# Altium schematic symbol library Sch for NFC.SchLib: 70 symbols (part 1 of 7)
Pins are listed as number, name and electrical type; pins without a type are passive.

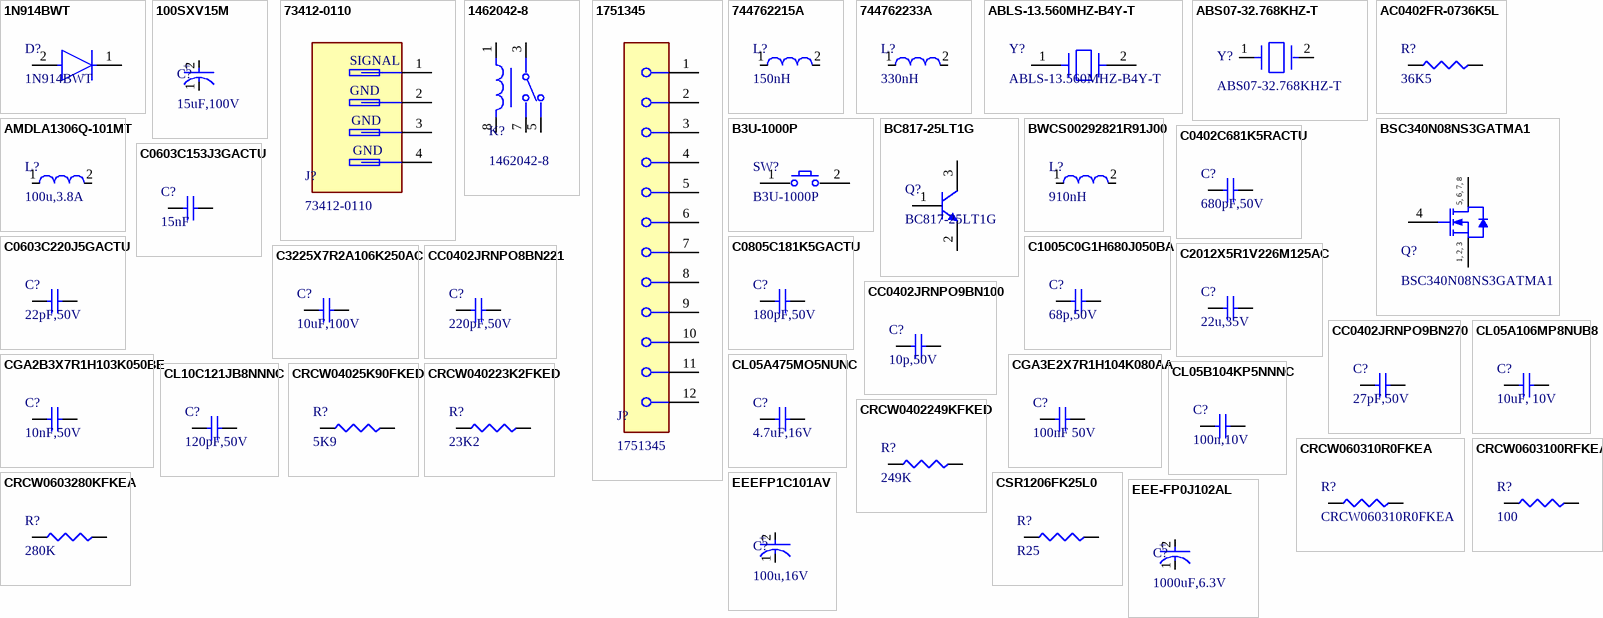
[diagram p0: symbols 1N914BWT to EEEFP1C101AV]

## 1N914BWT
designator D?
Res Thick Film 0603 1K Ohm 5% 0.125W(1/8W) ±200ppm/C Pad SMD Automotive T/R; Manufacturer: onsemi; Manufacturer Lifecycle Status: ACTIVE; Average Rectified Current: 200mA; Value: 4pF; Element Configuration: Single; Forward Current: 300mA; Forward Voltage: 720mV; Max Junction Temperature (Tj): 150°C; Max Output current: 150mA; Max Power Dissipation: 200mW; Max Repetitive Reverse Voltage (Vrrm): 75V; Max Reverse Leakage Current: 5µA; Number of Elements: 1; Recovery Time: 4ns; Reverse Voltage: 100V; Power Rating: 125mW; Temperature Coefficient: 200ppm/°C; Voltage Rating (DC): 50V; Supplier: DigiKey; Manufacturer Part Number: 1N914BWT; RoHS: Compliant; Category: Rectifier Diodes; Stock: 477421; Pricing: 1=0.1, 10=0.049, 100=0.0485, 500=0.038, 1000=0.03306, 2000=0.03258 (USD); China RoHS: Compliant; Contact Plating: Tin; Height: 700µm; Lead Free: Lead Free; Lifecycle Status: Production; Max Operating Temperature: 150°C; Max Reverse Voltage (DC): 75V; Min Operating Temperature: -55°C; Mounting Technology: Surface Mount; Pins: 2; Number of Terminals: 2; Peak Reverse Current: 5µA; Power Dissipation: 200mW; Radiation Hardening: No; REACH SVHC: Yes; Reverse Recovery Time: 4ns; Reverse Standoff Voltage: 75V; Schedule B: 8541100070, 8541100070|8541100070|8541100070|8541100070|8541100070; Weight: 10mg; ComponentLink1URL: https://datasheet.octopart.com:443/1N914BWT-ON-Semiconductor-datasheet-137236191.pdf?src-supplier=Master+Electronics; ComponentLink1Description: https://datasheet.octopart.com:443/1N914BWT-ON-Semiconductor-datasheet-137236191.pdf?src-supplier=Master+Electronics; ComponentLink2URL: https://sigma.octopart.com:443/138897313/technical_drawing/ON-Semiconductor-1N914BWT.pdf?src-supplier=Upverter; ComponentLink2Description: https://sigma.octopart.com:443/138897313/technical_drawing/ON-Semiconductor-1N914BWT.pdf?src-supplier=Upverter; ComponentLink3URL: https://datasheet.octopart.com:443/1N914BWT-ON-Semiconductor-datasheet-8641207.pdf?src-supplier=IHS; ComponentLink3Description: https://datasheet.octopart.com:443/1N914BWT-ON-Semiconductor-datasheet-8641207.pdf?src-supplier=IHS; ComponentLink4URL: https://datasheet.octopart.com:443/1N914BWT-onsemi-datasheet-181265884.pdf?src-supplier=IHS; ComponentLink4Description: https://datasheet.octopart.com:443/1N914BWT-onsemi-datasheet-181265884.pdf?src-supplier=IHS; ComponentLink5URL: https://datasheet.octopart.com:443/1N914BWT-ON-Semiconductor-datasheet-85393215.pdf?src-supplier=onsemi; ComponentLink5Description: https://datasheet.octopart.com:443/1N914BWT-ON-Semiconductor-datasheet-85393215.pdf?src-supplier=onsemi; ComponentLink6URL: https://datasheet.octopart.com:443/1N914BWT-ON-Semiconductor-datasheet-86684494.pdf?src-supplier=onsemi; ComponentLink6Description: https://datasheet.octopart.com:443/1N914BWT-ON-Semiconductor-datasheet-86684494.pdf?src-supplier=onsemi; ComponentLink7URL: https://datasheet.octopart.com:443/1N914BWT-ON-Semiconductor-datasheet-86681974.pdf?src-supplier=element14+APAC; ComponentLink7Description: https://datasheet.octopart.com:443/1N914BWT-ON-Semiconductor-datasheet-86681974.pdf?src-supplier=element14+APAC; ComponentLink8URL: https://datasheet.octopart.com:443/1N914BWT-Fairchild-datasheet-597795.pdf?src-supplier=Future+Electronics; ComponentLink8Description: https://datasheet.octopart.com:443/1N914BWT-Fairchild-datasheet-597795.pdf?src-supplier=Future+Electronics; ComponentLink9URL: https://sigma.octopart.com:443/17343427/technical_drawing/Fairchild-Semiconductor-1N914BWT.pdf?src-supplier=Fairchild+Semiconductor; ComponentLink9Description: https://sigma.octopart.com:443/17343427/technical_drawing/Fairchild-Semiconductor-1N914BWT.pdf?src-supplier=Fairchild+Semiconductor; ComponentLink10URL: https://datasheet.octopart.com:443/1N914BWT-Fairchild-Semiconductor-datasheet-67878665.pdf?src-supplier=Farnell; ComponentLink10Description: https://datasheet.octopart.com:443/1N914BWT-Fairchild-Semiconductor-datasheet-67878665.pdf?src-supplier=Farnell; ComponentLink11URL: https://datasheet.octopart.com:443/1N914BWT-Fairchild-Semiconductor-datasheet-68649996.pdf?src-supplier=Farnell; ComponentLink11Description: https://datasheet.octopart.com:443/1N914BWT-Fairchild-Semiconductor-datasheet-68649996.pdf?src-supplier=Farnell; ComponentLink12URL: https://datasheet.octopart.com:443/1N914BWT-Fairchild-Semiconductor-datasheet-78857206.pdf?src-supplier=Farnell; ComponentLink12Description: https://datasheet.octopart.com:443/1N914BWT-Fairchild-Semiconductor-datasheet-78857206.pdf?src-supplier=Farnell; ComponentLink13URL: https://datasheet.octopart.com:443/1N914BWT-Fairchild-Semiconductor-datasheet-67909706.pdf?src-supplier=Newark; ComponentLink13Description: https://datasheet.octopart.com:443/1N914BWT-Fairchild-Semiconductor-datasheet-67909706.pdf?src-supplier=Newark; ComponentLink14URL: https://datasheet.octopart.com:443/1N914BWT-Fairchild-Semiconductor-datasheet-68364971.pdf?src-supplier=Newark; ComponentLink14Description: https://datasheet.octopart.com:443/1N914BWT-Fairchild-Semiconductor-datasheet-68364971.pdf?src-supplier=Newark; ComponentLink15URL: https://datasheet.octopart.com:443/1N914BWT-Fairchild-Semiconductor-datasheet-71421042.pdf?src-supplier=Newark; ComponentLink15Description: https://datasheet.octopart.com:443/1N914BWT-Fairchild-Semiconductor-datasheet-71421042.pdf?src-supplier=Newark; ComponentLink16URL: http://sigma.octopart.com:80/150599636/rohs_statement/ON-Semiconductor-1N914BWT.pdf?src-supplier=Compliance+Statements; ComponentLink16Description: http://sigma.octopart.com:80/150599636/rohs_statement/ON-Semiconductor-1N914BWT.pdf?src-supplier=Compliance+Statements; ComponentLink17URL: http://sigma.octopart.com:80/17343722/reach_statement/Fairchild-Semiconductor-1N914BWT.pdf?src-supplier=Compliance+Statements; ComponentLink17Description: http://sigma.octopart.com:80/17343722/reach_statement/Fairchild-Semiconductor-1N914BWT.pdf?src-supplier=Compliance+Statements; ComponentLink18URL: http://sigma.octopart.com:80/17343723/materials_sheet/Fairchild-Semiconductor-1N914BWT.pdf?src-supplier=Compliance+Statements; ComponentLink18Description: http://sigma.octopart.com:80/17343723/materials_sheet/Fairchild-Semiconductor-1N914BWT.pdf?src-supplier=Compliance+Statements; ComponentLink19URL: http://sigma.octopart.com:80/33033631/reach_statement/Fairchild-Semiconductor-1N914BWT.pdf?src-supplier=Compliance+Statements; ComponentLink19Description: http://sigma.octopart.com:80/33033631/reach_statement/Fairchild-Semiconductor-1N914BWT.pdf?src-supplier=Compliance+Statements; ComponentLink20URL: http://sigma.octopart.com:80/33033633/materials_sheet/Fairchild-Semiconductor-1N914BWT.pdf?src-supplier=Compliance+Statements; ComponentLink20Description: http://sigma.octopart.com:80/33033633/materials_sheet/Fairchild-Semiconductor-1N914BWT.pdf?src-supplier=Compliance+Statements; ComponentLink21URL: http://sigma.octopart.com:80/reach_statement/ON-Semiconductor-company-79.pdf?src-supplier=Compliance+Statements; ComponentLink21Description: http://sigma.octopart.com:80/reach_statement/ON-Semiconductor-company-79.pdf?src-supplier=Compliance+Statements; ComponentLink22URL: http://sigma.octopart.com:80/reach_statement/Fairchild-Semiconductor-company-9.pdf?src-supplier=Compliance+Statements; ComponentLink22Description: http://sigma.octopart.com:80/reach_statement/Fairchild-Semiconductor-company-9.pdf?src-supplier=Compliance+Statements; ComponentLink23URL: http://sigma.octopart.com:80/rohs_statement/Fairchild-Semiconductor-company-10.pdf?src-supplier=Compliance+Statements; ComponentLink23Description: http://sigma.octopart.com:80/rohs_statement/Fairchild-Semiconductor-company-10.pdf?src-supplier=Compliance+Statements; ComponentLink24URL: http://sigma.octopart.com:80/rohs_statement/Fairchild-Semiconductor-company-11.pdf?src-supplier=Compliance+Statements; ComponentLink24Description: http://sigma.octopart.com:80/rohs_statement/Fairchild-Semiconductor-company-11.pdf?src-supplier=Compliance+Statements; ComponentLink25URL: https://octopart.com:443/opatz8j6/c1?t=2WqiEKOw8wqArRZqPpvR85ynHt7ZzVk2cO10dLGm-R0uzi761TwnKGd8G704mGlWt5NrywDr0KiccpzbdVN0vLD60p8HUNozkBvJah_YtAF0qkz_YdCTpuTRvpRRGRHvTs5MnoSWnaWLNMk8GsWHB5GOWZxEGL76QI-UHf2VYZrxGgdInPPAHzx67g23p6ag1zMjOvdQ_KO0sLW1YCbP87miLJ-xuglZHSzMiJPSla-JOyFE5O4L_wVOcXuUuW9Nq80bDDjFIEvXv_yLg6OaI31d8ivh4qXBzQAE5bOv_0EkyUSKc6N_Bvj2gIrePwDtp1ZIMUr8bvv7xrz_Ey9Bd0_sQCggic841Ck&src-supplier=Compliance+Statements; ComponentLink25Description: https://octopart.com:443/opatz8j6/c1?t=2WqiEKOw8wqArRZqPpvR85ynHt7ZzVk2cO10dLGm-R0uzi761TwnKGd8G704mGlWt5NrywDr0KiccpzbdVN0vLD60p8HUNozkBvJah_YtAF0qkz_YdCTpuTRvpRRGRHvTs5MnoSWnaWLNMk8GsWHB5GOWZxEGL76QI-UHf2VYZrxGgdInPPAHzx67g23p6ag1zMjOvdQ_KO0sLW1YCbP87miLJ-xuglZHSzMiJPSla-JOyFE5O4L_wVOcXuUuW9Nq80bDDjFIEvXv_yLg6OaI31d8ivh4qXBzQAE5bOv_0EkyUSKc6N_Bvj2gIrePwDtp1ZIMUr8bvv7xrz_Ey9Bd0_sQCggic841Ck&src-supplier=Compliance+Statements; ComponentLink26URL: https://octopart.com:443/opatz8j6/c1?t=RaqNgoITNyWOJnQ6Vh5XIuzQpAbr0CmMJXnszeBW8MsXPXzYAlD6RDR-K-xNy0bOoPbUZIWRPJiazHjtXn9auSuHtYVzaYiY_-4ACrRiEunSg5ftXbk51fnzLHl-pnx-xENRGEoc0sVQC3sW6At9uQOqTuvKnbOKqBSmNHH-_AM452Vbz-1SYlG8b9doSGgNLF68ZLSsI2Xi9YbSWNoCRNsA0utVy25_kYVX52Ab7j5ee_hVQPYkWwgdnH6jdHziL8hQDhpeIfaPz7mxVfqPvCOhRP-Nv0lQS1TZTbPLcILF8nRMY4HoGGGhnPru0GeEwc_xKGUtBaA48gLnW1nYBzFXwEvRb-b_FPUG&src-supplier=Compliance+Statements; ComponentLink26Description: https://octopart.com:443/opatz8j6/c1?t=RaqNgoITNyWOJnQ6Vh5XIuzQpAbr0CmMJXnszeBW8MsXPXzYAlD6RDR-K-xNy0bOoPbUZIWRPJiazHjtXn9auSuHtYVzaYiY_-4ACrRiEunSg5ftXbk51fnzLHl-pnx-xENRGEoc0sVQC3sW6At9uQOqTuvKnbOKqBSmNHH-_AM452Vbz-1SYlG8b9doSGgNLF68ZLSsI2Xi9YbSWNoCRNsA0utVy25_kYVX52Ab7j5ee_hVQPYkWwgdnH6jdHziL8hQDhpeIfaPz7mxVfqPvCOhRP-Nv0lQS1TZTbPLcILF8nRMY4HoGGGhnPru0GeEwc_xKGUtBaA48gLnW1nYBzFXwEvRb-b_FPUG&src-supplier=Compliance+Statements; LCSC PN: C896167; Case/Package: 0603; Case Code (Imperial): 0603; Case Code (Metric): 1608; Composition: Thick Film; Depth: 800µm; Length: 1.6mm; Military Standard: Not; Termination: SMD/SMT; Tolerance: 5%; Voltage Rating: 75V; Width: 800µm; Working Voltage: 75V; ComponentLink27URL: https://datasheet.octopart.com:443/RK73B1JTTD102J-KOA-Speer-datasheet-182143538.pdf?src-supplier=IHS; ComponentLink27Description: https://datasheet.octopart.com:443/RK73B1JTTD102J-KOA-Speer-datasheet-182143538.pdf?src-supplier=IHS; ComponentLink28URL: https://datasheet.octopart.com:443/RK73B1JTTD102J-KOA-Speer-datasheet-154585773.pdf?src-supplier=Future+Electronics; ComponentLink28Description: https://datasheet.octopart.com:443/RK73B1JTTD102J-KOA-Speer-datasheet-154585773.pdf?src-supplier=Future+Electronics; ComponentLink29URL: https://sigma.octopart.com:443/138820520/technical_drawing/KOA-Speer-RK73B1JTTD102J.pdf?src-supplier=Upverter; ComponentLink29Description: https://sigma.octopart.com:443/138820520/technical_drawing/KOA-Speer-RK73B1JTTD102J.pdf?src-supplier=Upverter; ComponentLink30URL: https://datasheet.octopart.com:443/RK73B1JTTD102J-KOA-Speer-datasheet-149653812.pdf?src-supplier=Farnell; ComponentLink30Description: https://datasheet.octopart.com:443/RK73B1JTTD102J-KOA-Speer-datasheet-149653812.pdf?src-supplier=Farnell; ComponentLink31URL: https://datasheet.octopart.com:443/RK73B1JTTD102J-KOA-Speer-datasheet-188906115.pdf?src-supplier=TME; ComponentLink31Description: https://datasheet.octopart.com:443/RK73B1JTTD102J-KOA-Speer-datasheet-188906115.pdf?src-supplier=TME; ComponentLink32URL: https://datasheet.octopart.com/RK73B-%7C-General-Purpose-2%25%2C-5%25-Tolerance-Thick-Film-Chip-Resistor-KOA-Speer-datasheet-family-86.pdf; ComponentLink32Description: https://datasheet.octopart.com/RK73B-%7C-General-Purpose-2%25%2C-5%25-Tolerance-Thick-Film-Chip-Resistor-KOA-Speer-datasheet-family-86.pdf; ComponentLink33URL: https://datasheet.octopart.com/RK73B1JTTD102J-KOA-Speer-datasheet-11541631.pdf; ComponentLink33Description: https://datasheet.octopart.com/RK73B1JTTD102J-KOA-Speer-datasheet-11541631.pdf; ComponentLink34URL: https://datasheet.octopart.com:443/RK73B1JTTD102J-KOA-Speer-datasheet-12985592.pdf?src-supplier=element14+APAC; ComponentLink34Description: https://datasheet.octopart.com:443/RK73B1JTTD102J-KOA-Speer-datasheet-12985592.pdf?src-supplier=element14+APAC; ComponentLink35URL: https://datasheet.octopart.com:443/RK73B1JTTD102J-KOA-Speer-datasheet-5377382.pdf?src-supplier=Garrett; ComponentLink35Description: https://datasheet.octopart.com:443/RK73B1JTTD102J-KOA-Speer-datasheet-5377382.pdf?src-supplier=Garrett; ComponentLink36URL: https://datasheet.octopart.com:443/RK73B1JTTD102J-KOA-Speer-datasheet-5377782.pdf?src-supplier=Garrett; ComponentLink36Description: https://datasheet.octopart.com:443/RK73B1JTTD102J-KOA-Speer-datasheet-5377782.pdf?src-supplier=Garrett; ComponentLink37URL: https://datasheet.octopart.com:443/RK73B1JTTD102J-KOA-Speer-datasheet-109290.pdf?src-supplier=Garrett; ComponentLink37Description: https://datasheet.octopart.com:443/RK73B1JTTD102J-KOA-Speer-datasheet-109290.pdf?src-supplier=Garrett; ComponentLink38URL: https://datasheet.octopart.com:443/RK73B1JTTD102J-KOA-Speer-datasheet-7547463.pdf?src-supplier=Jameco; ComponentLink38Description: https://datasheet.octopart.com:443/RK73B1JTTD102J-KOA-Speer-datasheet-7547463.pdf?src-supplier=Jameco; ComponentLink39URL: http://sigma.octopart.com:80/rohs_certificate/RK73B-%7C-General-Purpose-2%25%2C-5%25-Tolerance-Thick-Film-Chip-Resistor-KOA-Speer-family-90.pdf?src-supplier=Compliance+Statements; ComponentLink39Description: http://sigma.octopart.com:80/rohs_certificate/RK73B-%7C-General-Purpose-2%25%2C-5%25-Tolerance-Thick-Film-Chip-Resistor-KOA-Speer-family-90.pdf?src-supplier=Compliance+Statements
footprint 1N914BWT_dIODE_smd_ON_Semiconductor_502-01_MFG
pins: 1 CATHODE, 2 ANODE

## 100SXV15M
designator C?, comment 15uF,100V
15 µF 100 V Aluminum - Polymer Capacitors Radial, Can - SMD 40mOhm 1000 Hrs @ 125°C; Manufacturer: Panasonic; Manufacturer Part Number: 100SXV15M; Value: 15µF; ESR (Equivalent Series Resistance): 40mΩ; Leakage Current: 75µA; Life (Hours): 1000hours; Polarity: Polar; Ripple Current: 36.5mA; Tolerance: 20%; Supplier: DigiKey; RoHS: Compliant; Category: Aluminum Electrolytic Capacitors; Pricing: 1=3.23, 10=2.172, 50=1.7306, 100=1.5916 (USD); Case/Package: Radial; Diameter: 8mm; Height: 11.9mm; Height - Seated (Max): 11.9888mm; Length: 8.3mm; Lifecycle Status: Production; Material: Polymer; Max Operating Temperature: 125°C; Min Operating Temperature: -55°C; Mounting Technology: Surface Mount; Number of Terminals: 2; REACH SVHC: Yes; Schedule B: 8532220020, 8532220020|8532220020|8532220020|8532220020|8532220020|8532220020|8532220020|8532220020|8532220020|8532220020|8532220020|8532220020|8532220020|8532220020|8532220020|8532220020|8532220020|8532220020|8532220020|8532220020|8532220020|8532220020|8532220020|85; Voltage Rating: 100V; Voltage Rating (DC): 100V; Width: 8.3mm; ComponentLink1URL: https://datasheet.octopart.com:443/100SXV15M-Panasonic-datasheet-182100634.pdf?src-supplier=IHS; ComponentLink1Description: https://datasheet.octopart.com:443/100SXV15M-Panasonic-datasheet-182100634.pdf?src-supplier=IHS; ComponentLink2URL: https://sigma.octopart.com:443/138897373/technical_drawing/Panasonic-100SXV15M.pdf?src-supplier=Upverter; ComponentLink2Description: https://sigma.octopart.com:443/138897373/technical_drawing/Panasonic-100SXV15M.pdf?src-supplier=Upverter; ComponentLink3URL: https://datasheet.octopart.com:443/100SXV15M-Panasonic-datasheet-136807604.pdf?src-supplier=Master+Electronics; ComponentLink3Description: https://datasheet.octopart.com:443/100SXV15M-Panasonic-datasheet-136807604.pdf?src-supplier=Master+Electronics; ComponentLink4URL: https://datasheet.octopart.com:443/100SXV15M-Panasonic-datasheet-137287090.pdf?src-supplier=Master+Electronics; ComponentLink4Description: https://datasheet.octopart.com:443/100SXV15M-Panasonic-datasheet-137287090.pdf?src-supplier=Master+Electronics; ComponentLink5URL: https://datasheet.octopart.com:443/100SXV15M-Panasonic-datasheet-98225043.pdf?src-supplier=Farnell; ComponentLink5Description: https://datasheet.octopart.com:443/100SXV15M-Panasonic-datasheet-98225043.pdf?src-supplier=Farnell; ComponentLink6URL: https://datasheet.octopart.com:443/100SXV15M-Panasonic-datasheet-46913357.pdf?src-supplier=Newark; ComponentLink6Description: https://datasheet.octopart.com:443/100SXV15M-Panasonic-datasheet-46913357.pdf?src-supplier=Newark; ComponentLink7URL: https://datasheet.octopart.com:443/100SXV15M-Panasonic-datasheet-84207363.pdf?src-supplier=Panasonic+SCT; ComponentLink7Description: https://datasheet.octopart.com:443/100SXV15M-Panasonic-datasheet-84207363.pdf?src-supplier=Panasonic+SCT; ComponentLink8URL: https://sigma.octopart.com:443/150570690/technical_drawing/Panasonic-100SXV15M.pdf?src-supplier=Panasonic+SCT; ComponentLink8Description: https://sigma.octopart.com:443/150570690/technical_drawing/Panasonic-100SXV15M.pdf?src-supplier=Panasonic+SCT; ComponentLink9URL: https://datasheet.octopart.com:443/100SXV15M-Panasonic-datasheet-78862147.pdf?src-supplier=element14+APAC; ComponentLink9Description: https://datasheet.octopart.com:443/100SXV15M-Panasonic-datasheet-78862147.pdf?src-supplier=element14+APAC; LCSC PN: C542593
footprint FP-SMT-CAP-15U-100V-ELECTROLTIC
pins: 1 C, 2 A
text: +

## 73412-0110
designator J?
U.FL (UMCC) ANTENNA Connector Receptacle, Male Pin 50 Ohms Surface Mount Solder; Manufacturer: Molex; Manufacturer Lifecycle Status: ACTIVE; Body Material: Liquid Crystal Polymer, Polymer; Body Plating: Gold; Connector Type: Coaxial; Contact Resistance: 25mΩ; Dielectric Material: Liquid Crystal Polymer; Frequency: 6GHz; Gender: Female; Impedance: 50Ω; Insulation Resistance: 100MΩ; Number of Ports: 1; Polarity: Standard; Voltage Rating: 60V; Supplier: DigiKey; Manufacturer Part Number: 73412-0110; RoHS: Compliant; Category: RF / Coaxial Connectors; Stock: 130802; Pricing: 1=0.8, 10=0.675, 25=0.6328, 50=0.6028, 100=0.5739, 250=0.53788, 500=0.5122, 1000=0.48774, 2500=0.4572, 5000=0.42867, 10000=0.40822, 15000=0.39672, 25000=0.38269 (USD); China RoHS: Compliant; Contact Gender: Female; Contact Material: Brass; Contact Plating: Gold; Country of Origin: US; Halogen Free: Low Halogen; Height: 1.25mm; Lead Free: Lead Free; Length: 3mm; Lifecycle Status: Production; Material: Bronze; Clock Frequency: 6GHz; Max Operating Temperature: 90°C; Min Operating Temperature: -40°C; Mounting Technology: Surface Mount; Pins: 1; Orientation: Straight; Packaging: Tape and Reel; Radiation Hardening: No; REACH SVHC: Yes; Termination: Solder; Voltage Rating (AC): 60V; Width: 3mm; ComponentLink1URL: https://datasheet.octopart.com:443/73412-0110-Molex-datasheet-180780342.pdf?src-supplier=IHS; ComponentLink1Description: https://datasheet.octopart.com:443/73412-0110-Molex-datasheet-180780342.pdf?src-supplier=IHS; ComponentLink2URL: https://datasheet.octopart.com:443/73412-0110-Molex-datasheet-13797444.pdf?src-supplier=Molex; ComponentLink2Description: https://datasheet.octopart.com:443/73412-0110-Molex-datasheet-13797444.pdf?src-supplier=Molex; ComponentLink3URL: https://datasheet.octopart.com:443/73412-0110-Molex-datasheet-12565081.pdf?src-supplier=Upverter; ComponentLink3Description: https://datasheet.octopart.com:443/73412-0110-Molex-datasheet-12565081.pdf?src-supplier=Upverter; ComponentLink4URL: https://datasheet.octopart.com:443/73412-0110-Molex-datasheet-8545995.pdf?src-supplier=Upverter; ComponentLink4Description: https://datasheet.octopart.com:443/73412-0110-Molex-datasheet-8545995.pdf?src-supplier=Upverter; ComponentLink5URL: https://datasheet.octopart.com:443/73412-0110-Molex-datasheet-154758340.pdf?src-supplier=Master+Electronics; ComponentLink5Description: https://datasheet.octopart.com:443/73412-0110-Molex-datasheet-154758340.pdf?src-supplier=Master+Electronics; ComponentLink6URL: https://datasheet.octopart.com:443/73412-0110-Molex-datasheet-101583680.pdf?src-supplier=Farnell; ComponentLink6Description: https://datasheet.octopart.com:443/73412-0110-Molex-datasheet-101583680.pdf?src-supplier=Farnell; ComponentLink7URL: https://datasheet.octopart.com:443/73412-0110-Molex-datasheet-11536961.pdf?src-supplier=Farnell; ComponentLink7Description: https://datasheet.octopart.com:443/73412-0110-Molex-datasheet-11536961.pdf?src-supplier=Farnell; ComponentLink8URL: https://datasheet.octopart.com:443/73412-0110-Molex-datasheet-11046821.pdf?src-supplier=Farnell; ComponentLink8Description: https://datasheet.octopart.com:443/73412-0110-Molex-datasheet-11046821.pdf?src-supplier=Farnell; ComponentLink9URL: https://datasheet.octopart.com:443/73412-0110-Molex-datasheet-540048.pdf?src-supplier=Farnell; ComponentLink9Description: https://datasheet.octopart.com:443/73412-0110-Molex-datasheet-540048.pdf?src-supplier=Farnell; ComponentLink10URL: https://datasheet.octopart.com:443/73412-0110-Molex-datasheet-27085815.pdf?src-supplier=Electro+Sonic; ComponentLink10Description: https://datasheet.octopart.com:443/73412-0110-Molex-datasheet-27085815.pdf?src-supplier=Electro+Sonic; ComponentLink11URL: https://datasheet.octopart.com:443/73412-0110-Molex-datasheet-44403139.pdf?src-supplier=Electro+Sonic; ComponentLink11Description: https://datasheet.octopart.com:443/73412-0110-Molex-datasheet-44403139.pdf?src-supplier=Electro+Sonic; ComponentLink12URL: https://datasheet.octopart.com:443/73412-0110-Molex-datasheet-188909867.pdf?src-supplier=TME; ComponentLink12Description: https://datasheet.octopart.com:443/73412-0110-Molex-datasheet-188909867.pdf?src-supplier=TME; ComponentLink13URL: https://datasheet.octopart.com:443/73412-0110-Molex-datasheet-45012700.pdf?src-supplier=TME; ComponentLink13Description: https://datasheet.octopart.com:443/73412-0110-Molex-datasheet-45012700.pdf?src-supplier=TME; ComponentLink14URL: https://datasheet.octopart.com:443/73412-0110-Molex-datasheet-140187864.pdf?src-supplier=RS+(Formerly+Allied+Electronics); ComponentLink14Description: https://datasheet.octopart.com:443/73412-0110-Molex-datasheet-140187864.pdf?src-supplier=RS+(Formerly+Allied+Electronics); ComponentLink15URL: https://datasheet.octopart.com:443/73412-0110-Molex-datasheet-120156196.pdf?src-supplier=RS+(Formerly+Allied+Electronics); ComponentLink15Description: https://datasheet.octopart.com:443/73412-0110-Molex-datasheet-120156196.pdf?src-supplier=RS+(Formerly+Allied+Electronics); ComponentLink16URL: https://datasheet.octopart.com:443/73412-0110-Molex-datasheet-34442373.pdf?src-supplier=RS+(Formerly+Allied+Electronics); ComponentLink16Description: https://datasheet.octopart.com:443/73412-0110-Molex-datasheet-34442373.pdf?src-supplier=RS+(Formerly+Allied+Electronics); ComponentLink17URL: https://datasheet.octopart.com:443/734120110-Molex-datasheet-137316104.pdf?src-supplier=Future+Electronics; ComponentLink17Description: https://datasheet.octopart.com:443/734120110-Molex-datasheet-137316104.pdf?src-supplier=Future+Electronics; ComponentLink18URL: https://datasheet.octopart.com:443/73412-0110-Molex-datasheet-33004214.pdf?src-supplier=Newark; ComponentLink18Description: https://datasheet.octopart.com:443/73412-0110-Molex-datasheet-33004214.pdf?src-supplier=Newark; ComponentLink19URL: https://datasheet.octopart.com:443/73412-0110-Molex-datasheet-33004213.pdf?src-supplier=Newark; ComponentLink19Description: https://datasheet.octopart.com:443/73412-0110-Molex-datasheet-33004213.pdf?src-supplier=Newark; ComponentLink20URL: http://sigma.octopart.com:80/16441449/rohs_statement/Molex-734120110.pdf?src-supplier=Compliance+Statements; ComponentLink20Description: http://sigma.octopart.com:80/16441449/rohs_statement/Molex-734120110.pdf?src-supplier=Compliance+Statements; ComponentLink21URL: http://sigma.octopart.com:80/conflict_mineral_statement/Molex-company-72.pdf?src-supplier=Compliance+Statements; ComponentLink21Description: http://sigma.octopart.com:80/conflict_mineral_statement/Molex-company-72.pdf?src-supplier=Compliance+Statements; ComponentLink22URL: http://sigma.octopart.com:80/rohs_statement/Molex-company-73.pdf?src-supplier=Compliance+Statements; ComponentLink22Description: http://sigma.octopart.com:80/rohs_statement/Molex-company-73.pdf?src-supplier=Compliance+Statements; ComponentLink23URL: http://sigma.octopart.com:80/reach_statement/Molex-company-74.pdf?src-supplier=Compliance+Statements; ComponentLink23Description: http://sigma.octopart.com:80/reach_statement/Molex-company-74.pdf?src-supplier=Compliance+Statements; LCSC PN: C434806
footprint ANT_CONN_Molex_734-12-0110_0
pins: 1 SIGNAL, 2 GROUND, 3 GROUND, 4 GROUND
text: GND

## 1462042-8
designator K?
Telecom Relay SPDT (1 Form C) Surface Mount; Manufacturer: TE Connectivity; Manufacturer Lifecycle Status: ACTIVE; Coil Current: 28mA; Coil Power: 140mW; Coil Resistance: 178Ω; Coil Type: Non-Latching; Coil Voltage (DC): 3.75V; Contact Current Rating: 3A; Contact Resistance: 50mΩ; Contact Voltage Rating (AC): 250V; Contact Voltage Rating (DC): 220V; Current Rating: 4A; Electrical Life: 100kcycles; Insertion Loss (dB): -0.03dB; Insulation Resistance: 1TΩ; Clock Frequency: 900MHz; Number of Contacts: 1; Operate Time: 1ms; Release Time: 2ms; Sealable: IP67, RT5; Supplier: DigiKey; Manufacturer Part Number: 1462042-8; RoHS: Compliant; Category: Signal Relays; Pricing: 1=4.05, 10=3.609, 25=3.4468, 50=3.3286, 100=3.2145, 250=3.06948, 500=2.96408 (USD); Ambient Temperature Range High: 85°C; China RoHS: Compliant; Contact Material: Gold, Ruthenium; Contact Plating: Gold; Depth: 7.5mm; ELV: Compliant; Height: 5.65mm; Lead Free: Lead Free; Length: 9.9822mm; Lifecycle Status: Production; Max Current Rating: 3A; Max Operating Temperature: 85°C; Max Voltage Rating (AC): 250V; Max Voltage Rating (DC): 220V; Min Operating Temperature: -40°C; Mounting Technology: Surface Mount; Pins: 5; Number of Terminals: 5; Packaging: Tape and Reel; REACH SVHC: Yes; Relay Type: Relay; Response Time: 2ms; Switching Current: 4A; Termination: PCB; Throw Configuration: SPDT; Voltage Rating (AC): 250V; Voltage Rating (DC): 220V; Weight: 750mg; Width: 5.6388mm; ComponentLink1URL: https://datasheet.octopart.com:443/1462042-8-TE-Connectivity-datasheet-137420492.pdf?src-supplier=JRH+Electronics; ComponentLink1Description: https://datasheet.octopart.com:443/1462042-8-TE-Connectivity-datasheet-137420492.pdf?src-supplier=JRH+Electronics; ComponentLink2URL: https://datasheet.octopart.com:443/1462042-8-TE-Connectivity-datasheet-179946163.pdf?src-supplier=IHS; ComponentLink2Description: https://datasheet.octopart.com:443/1462042-8-TE-Connectivity-datasheet-179946163.pdf?src-supplier=IHS; ComponentLink3URL: https://sigma.octopart.com:443/38875905/technical_drawing/TE-Connectivity-1462042-8.pdf?src-supplier=TE+Connectivity; ComponentLink3Description: https://sigma.octopart.com:443/38875905/technical_drawing/TE-Connectivity-1462042-8.pdf?src-supplier=TE+Connectivity; ComponentLink4URL: https://datasheet.octopart.com:443/1462042-8-TE-Connectivity-datasheet-14547674.pdf?src-supplier=TE+Connectivity; ComponentLink4Description: https://datasheet.octopart.com:443/1462042-8-TE-Connectivity-datasheet-14547674.pdf?src-supplier=TE+Connectivity; ComponentLink5URL: https://datasheet.octopart.com:443/1462042-8-TE-Connectivity-datasheet-136865190.pdf?src-supplier=TE+Connectivity; ComponentLink5Description: https://datasheet.octopart.com:443/1462042-8-TE-Connectivity-datasheet-136865190.pdf?src-supplier=TE+Connectivity; ComponentLink6URL: https://datasheet.octopart.com:443/1462042-8-TE-Connectivity-datasheet-136861145.pdf?src-supplier=TE+Connectivity; ComponentLink6Description: https://datasheet.octopart.com:443/1462042-8-TE-Connectivity-datasheet-136861145.pdf?src-supplier=TE+Connectivity; ComponentLink7URL: https://sigma.octopart.com:443/136536779/technical_drawing/TE-Connectivity-1462042-8.pdf?src-supplier=TE+Connectivity; ComponentLink7Description: https://sigma.octopart.com:443/136536779/technical_drawing/TE-Connectivity-1462042-8.pdf?src-supplier=TE+Connectivity; ComponentLink8URL: https://sigma.octopart.com:443/68321908/technical_drawing/TE-Connectivity-1462042-8.pdf?src-supplier=TE+Connectivity; ComponentLink8Description: https://sigma.octopart.com:443/68321908/technical_drawing/TE-Connectivity-1462042-8.pdf?src-supplier=TE+Connectivity; ComponentLink9URL: https://sigma.octopart.com:443/14546022/technical_drawing/TE-Connectivity-1462042-8.pdf?src-supplier=TE+Connectivity; ComponentLink9Description: https://sigma.octopart.com:443/14546022/technical_drawing/TE-Connectivity-1462042-8.pdf?src-supplier=TE+Connectivity; ComponentLink10URL: https://datasheet.octopart.com:443/1462042-8-TE-Connectivity-datasheet-130056123.pdf?src-supplier=Electro+Sonic; ComponentLink10Description: https://datasheet.octopart.com:443/1462042-8-TE-Connectivity-datasheet-130056123.pdf?src-supplier=Electro+Sonic; ComponentLink11URL: https://datasheet.octopart.com:443/1462042-8-TE-Connectivity-datasheet-129083727.pdf?src-supplier=Electro+Sonic; ComponentLink11Description: https://datasheet.octopart.com:443/1462042-8-TE-Connectivity-datasheet-129083727.pdf?src-supplier=Electro+Sonic; ComponentLink12URL: https://datasheet.octopart.com:443/1462042-8-Tyco-Electronics-datasheet-11758492.pdf?src-supplier=Electro+Sonic; ComponentLink12Description: https://datasheet.octopart.com:443/1462042-8-Tyco-Electronics-datasheet-11758492.pdf?src-supplier=Electro+Sonic; ComponentLink13URL: https://datasheet.octopart.com:443/1462042-8-TE-Connectivity-datasheet-114345573.pdf?src-supplier=Master+Electronics; ComponentLink13Description: https://datasheet.octopart.com:443/1462042-8-TE-Connectivity-datasheet-114345573.pdf?src-supplier=Master+Electronics; ComponentLink14URL: https://datasheet.octopart.com:443/1462042-8-TE-Connectivity-datasheet-82456702.pdf?src-supplier=Farnell; ComponentLink14Description: https://datasheet.octopart.com:443/1462042-8-TE-Connectivity-datasheet-82456702.pdf?src-supplier=Farnell; ComponentLink15URL: https://datasheet.octopart.com:443/1462042-8-TE-Connectivity-datasheet-147567808.pdf?src-supplier=RS+(Formerly+Allied+Electronics); ComponentLink15Description: https://datasheet.octopart.com:443/1462042-8-TE-Connectivity-datasheet-147567808.pdf?src-supplier=RS+(Formerly+Allied+Electronics); ComponentLink16URL: https://datasheet.octopart.com:443/1462042-8-TE-Connectivity-datasheet-147411287.pdf?src-supplier=RS+(Formerly+Allied+Electronics); ComponentLink16Description: https://datasheet.octopart.com:443/1462042-8-TE-Connectivity-datasheet-147411287.pdf?src-supplier=RS+(Formerly+Allied+Electronics); ComponentLink17URL: https://datasheet.octopart.com:443/1462042-8-TE-Connectivity-datasheet-147402889.pdf?src-supplier=RS+(Formerly+Allied+Electronics); ComponentLink17Description: https://datasheet.octopart.com:443/1462042-8-TE-Connectivity-datasheet-147402889.pdf?src-supplier=RS+(Formerly+Allied+Electronics); ComponentLink18URL: https://datasheet.octopart.com:443/1462042-8-Axicom-datasheet-15983679.pdf?src-supplier=Newark; ComponentLink18Description: https://datasheet.octopart.com:443/1462042-8-Axicom-datasheet-15983679.pdf?src-supplier=Newark; ComponentLink19URL: https://datasheet.octopart.com:443/1462042-8-TE-Connectivity-datasheet-15792550.pdf?src-supplier=Future+Electronics; ComponentLink19Description: https://datasheet.octopart.com:443/1462042-8-TE-Connectivity-datasheet-15792550.pdf?src-supplier=Future+Electronics; ComponentLink20URL: http://sigma.octopart.com:80/99347369/materials_sheet/TE-Connectivity-1462042-8.pdf?src-supplier=Compliance+Statements; ComponentLink20Description: http://sigma.octopart.com:80/99347369/materials_sheet/TE-Connectivity-1462042-8.pdf?src-supplier=Compliance+Statements; ComponentLink21URL: http://sigma.octopart.com:80/14547716/rohs_certificate/AMP-1462042-8.pdf?src-supplier=Compliance+Statements; ComponentLink21Description: http://sigma.octopart.com:80/14547716/rohs_certificate/AMP-1462042-8.pdf?src-supplier=Compliance+Statements; LCSC PN: C574842
footprint RELAY_SPDT_TE_1462042-8_0
pins: 1, 3, 5, 7, 8

## 1751345
designator J?
12 Position Wire to Board Terminal Block Horizontal with Board 0.138" (3.50mm) Through Hole; Manufacturer: Phoenix Contact; Approvals: CB, UL, cUL; Connector Type: Screw; Current: 13.5A; Current Rating: 10A; Gender: Male; Max Current Rating: 12A; Max Supply Voltage: 160V; Number of Circuits: 12; Number of Levels: 1; Pitch: 3.5mm; Stripping Length: 5mm; Voltage: 300V; Wire/Cable Gauge: 16AWG; Wire Gauge (Max): 26AWG; Supplier: DigiKey; Manufacturer Part Number: 1751345; RoHS: Compliant; Category: Terminal Blocks; Stock: 579; Pricing: 1=7.67, 10=6.066 (USD); China RoHS: Compliant; Color: Green; Contact Material: Tin; Depth: 7.3mm; Flammability Rating: UL94 V-0; Height: 12mm; Housing Color: Green; Housing Material: Polyamide; Insulation Material: Nylon; Lead Free: Lead Free; Length: 42.5mm; Lifecycle Status: Production; Material: Polyamide; Mounting Technology: Screw; Number of Contacts: 12; Pins: 12; Number of Poles: 12; Number of Positions: 12; Number of Positions Per Level: 12; Number of Rows: 1; Orientation: Straight; Radiation Hardening: No; REACH SVHC: Yes; Termination: Screw; Voltage Rating: 160V; Weight: 6.200012g; Width: 7.3mm; Wire Gauge (Min): 16AWG; ComponentLink1URL: https://datasheet.octopart.com:443/1751345-Phoenix-Contact-datasheet-181077025.pdf?src-supplier=IHS; ComponentLink1Description: https://datasheet.octopart.com:443/1751345-Phoenix-Contact-datasheet-181077025.pdf?src-supplier=IHS; ComponentLink2URL: https://datasheet.octopart.com:443/1751345-Phoenix-Contact-datasheet-86450921.pdf?src-supplier=Farnell; ComponentLink2Description: https://datasheet.octopart.com:443/1751345-Phoenix-Contact-datasheet-86450921.pdf?src-supplier=Farnell; ComponentLink3URL: https://datasheet.octopart.com:443/MKDS-1-12-3%2C5-Phoenix-Contact-datasheet-42256239.pdf?src-supplier=element14+APAC; ComponentLink3Description: https://datasheet.octopart.com:443/MKDS-1-12-3%2C5-Phoenix-Contact-datasheet-42256239.pdf?src-supplier=element14+APAC; ComponentLink4URL: https://datasheet.octopart.com:443/1751345-Phoenix-Contact-datasheet-154779214.pdf?src-supplier=Electro+Sonic; ComponentLink4Description: https://datasheet.octopart.com:443/1751345-Phoenix-Contact-datasheet-154779214.pdf?src-supplier=Electro+Sonic; ComponentLink5URL: https://datasheet.octopart.com:443/1751345-Phoenix-Contact-datasheet-177325489.pdf?src-supplier=Burklin+Elektronik; ComponentLink5Description: https://datasheet.octopart.com:443/1751345-Phoenix-Contact-datasheet-177325489.pdf?src-supplier=Burklin+Elektronik; ComponentLink6URL: https://datasheet.octopart.com:443/1751345-Phoenix-Contact-datasheet-62122524.pdf?src-supplier=RS+(Formerly+Allied+Electronics); ComponentLink6Description: https://datasheet.octopart.com:443/1751345-Phoenix-Contact-datasheet-62122524.pdf?src-supplier=RS+(Formerly+Allied+Electronics); ComponentLink7URL: https://datasheet.octopart.com:443/1751345-Phoenix-Contact-datasheet-9939319.pdf?src-supplier=RS+(Formerly+Allied+Electronics); ComponentLink7Description: https://datasheet.octopart.com:443/1751345-Phoenix-Contact-datasheet-9939319.pdf?src-supplier=RS+(Formerly+Allied+Electronics); ComponentLink8URL: https://datasheet.octopart.com:443/1751345-Phoenix-Contact-datasheet-68130.pdf?src-supplier=RS+(Formerly+Allied+Electronics); ComponentLink8Description: https://datasheet.octopart.com:443/1751345-Phoenix-Contact-datasheet-68130.pdf?src-supplier=RS+(Formerly+Allied+Electronics); ComponentLink9URL: https://datasheet.octopart.com:443/1751345-Phoenix-Contact-datasheet-33465275.pdf?src-supplier=MRO+Stop; ComponentLink9Description: https://datasheet.octopart.com:443/1751345-Phoenix-Contact-datasheet-33465275.pdf?src-supplier=MRO+Stop; ComponentLink10URL: https://datasheet.octopart.com:443/1751345-Phoenix-Contact-datasheet-11783629.pdf?src-supplier=Arrow+Electronics; ComponentLink10Description: https://datasheet.octopart.com:443/1751345-Phoenix-Contact-datasheet-11783629.pdf?src-supplier=Arrow+Electronics; LCSC PN: C6651535
footprint Terminal_Block_12pin_screw_Phoenix_Contact_1751345_0
pins: 1, 2, 3, 4, 5, 6, 7, 8, 9, 10, 11, 12

## 744762215A
designator L?, comment 150nH
150 nH Unshielded Drum Core, Wirewound Inductor 800 mA 220mOhm Max 1008 (2520 Metric); Manufacturer: Wurth Elektronik; Manufacturer Part Number: 744762215A; Core Material: Ceramic; Current Rating: 800mA; DC Resistance (DCR): 220mΩ; Frequency: 100MHz; Inductance Tolerance: 5%; Q Factor: 45; Self Resonant Frequency: 880MHz; Supplier: DigiKey; RoHS: Compliant; Category: Fixed Inductors; Stock: 3153; Pricing: 1=0.47, 10=0.45, 50=0.419, 100=0.388, 500=0.357, 1000=0.327, 2000=0.2664 (USD); Ambient Temperature Range High: 110°C; Ambient Temperature Range Low: -40°C; Case/Package: 1008; Case Code (Imperial): 1008; Case Code (Metric): 2520; Composition: Ceramic, Wirewound; Height: 1.6mm; Value: 150nH; Length: 2.5mm; Material: Ceramic; Max DC Current: 800mA; Max Operating Temperature: 125°C; Min Operating Temperature: -40°C; Mounting Technology: Surface Mount; REACH SVHC: Unknown; ESR: 220mΩ; Shielding: Unshielded; Termination: SMD/SMT; Test Frequency: 100MHz; Tolerance: 5%; Weight: 20mg; Width: 2mm; ComponentLink1URL: https://datasheet.octopart.com:443/744762215A-Wurth-Elektronik-datasheet-168491789.pdf?src-supplier=Wurth+Elektronik; ComponentLink1Description: https://datasheet.octopart.com:443/744762215A-Wurth-Elektronik-datasheet-168491789.pdf?src-supplier=Wurth+Elektronik; ComponentLink2URL: https://datasheet.octopart.com:443/744762215A-W%C3%BCrth-Elektronik-datasheet-11520320.pdf?src-supplier=element14+APAC; ComponentLink2Description: https://datasheet.octopart.com:443/744762215A-W%C3%BCrth-Elektronik-datasheet-11520320.pdf?src-supplier=element14+APAC; ComponentLink3URL: https://datasheet.octopart.com:443/744762215A-Wurth-Elektronik-datasheet-181536004.pdf?src-supplier=Newark; ComponentLink3Description: https://datasheet.octopart.com:443/744762215A-Wurth-Elektronik-datasheet-181536004.pdf?src-supplier=Newark
footprint 150nH-SMD2
pins: 1, 2

## 744762233A
designator L?, comment 330nH
330 nH Unshielded Drum Core, Wirewound Inductor 500 mA 900mOhm Max 1008 (2520 Metric); Manufacturer: Wurth Elektronik; Manufacturer Part Number: 744762233A; Core Material: Ceramic; Current Rating: 500mA; DC Resistance (DCR): 900mΩ; Frequency: 100MHz; Inductance Tolerance: 5%; Q Factor: 45; Self Resonant Frequency: 570MHz; Supplier: DigiKey; RoHS: Compliant; Category: Fixed Inductors; Stock: 5048; Pricing: 1=0.47, 10=0.45, 50=0.419, 100=0.388, 500=0.357, 1000=0.327, 2000=0.2664 (USD); Ambient Temperature Range High: 110°C; Ambient Temperature Range Low: -40°C; Case/Package: 1008; Case Code (Imperial): 1008; Case Code (Metric): 2520; Composition: Ceramic, Wirewound; Height: 1.6mm; Value: 330nH; Length: 2.5mm; Material: Ceramic; Max DC Current: 500mA; Max Operating Temperature: 125°C; Min Operating Temperature: -40°C; Mounting Technology: Surface Mount; REACH SVHC: Unknown; ESR: 900mΩ; Shielding: Unshielded; Termination: SMD/SMT; Test Frequency: 100MHz; Tolerance: 5%; Weight: 20mg; Width: 2mm; ComponentLink1URL: https://datasheet.octopart.com:443/744762233A-Wurth-Elektronik-datasheet-168491793.pdf?src-supplier=Farnell; ComponentLink1Description: https://datasheet.octopart.com:443/744762233A-Wurth-Elektronik-datasheet-168491793.pdf?src-supplier=Farnell; ComponentLink2URL: https://datasheet.octopart.com:443/744762233A-W%C3%BCrth-Elektronik-datasheet-11534833.pdf?src-supplier=element14+APAC; ComponentLink2Description: https://datasheet.octopart.com:443/744762233A-W%C3%BCrth-Elektronik-datasheet-11534833.pdf?src-supplier=element14+APAC; ComponentLink3URL: https://datasheet.octopart.com:443/744762233A-Wurth-Elektronik-datasheet-181536009.pdf?src-supplier=Newark; ComponentLink3Description: https://datasheet.octopart.com:443/744762233A-Wurth-Elektronik-datasheet-181536009.pdf?src-supplier=Newark; ComponentLink4URL: https://datasheet.octopart.com:443/744762233A-W%C3%BCrth-Elektronik-datasheet-111089033.pdf?src-supplier=RS+(Formerly+Allied+Electronics); ComponentLink4Description: https://datasheet.octopart.com:443/744762233A-W%C3%BCrth-Elektronik-datasheet-111089033.pdf?src-supplier=RS+(Formerly+Allied+Electronics)
footprint 330nh-SMD2
pins: 1, 2

## ABLS-13.560MHZ-B4Y-T
designator Y?
13.56 MHz ±30ppm Crystal 18pF 50 Ohms HC-49/US; Manufacturer: Abracon; ESR (Equivalent Series Resistance): 50Ω; Frequency Tolerance: 0.003%; Supplier: DigiKey; Manufacturer Part Number: ABLS-13.560MHZ-B4Y-T; RoHS: Compliant; Category: Crystals; Stock: 850; Pricing: 1=0.42, 10=0.364, 25=0.3444, 50=0.33, 100=0.3164, 250=0.29916, 500=0.2868 (USD); Value: 18pF; China RoHS: Compliant; Frequency: 13.56MHz; Frequency Stability: 30ppm; Height: 4.2mm; Lead Free: Lead Free; Length: 11.4mm; Lifecycle Status: Production; Load Capacitance: 18pF; Max Operating Temperature: 70°C; Min Operating Temperature: -20°C; Mounting Technology: Surface Mount; REACH SVHC: Yes; Schedule B: 8541600080, 8541600080|8541600080|8541600080|8541600080|8541600080; ESR: 50Ω; Width: 4.7mm; ComponentLink1URL: https://datasheet.octopart.com:443/ABLS-13.560MHZ-B-4-Y-T-Abracon-datasheet-182204513.pdf?src-supplier=IHS; ComponentLink1Description: https://datasheet.octopart.com:443/ABLS-13.560MHZ-B-4-Y-T-Abracon-datasheet-182204513.pdf?src-supplier=IHS; ComponentLink2URL: https://datasheet.octopart.com:443/ABLS-13.560MHZ-B-4-Y-T-Abracon-datasheet-159752991.pdf?src-supplier=IHS; ComponentLink2Description: https://datasheet.octopart.com:443/ABLS-13.560MHZ-B-4-Y-T-Abracon-datasheet-159752991.pdf?src-supplier=IHS; ComponentLink3URL: https://datasheet.octopart.com:443/ABLS-13.560MHZ-B4Y-T-Abracon-datasheet-139816269.pdf?src-supplier=Electro+Sonic; ComponentLink3Description: https://datasheet.octopart.com:443/ABLS-13.560MHZ-B4Y-T-Abracon-datasheet-139816269.pdf?src-supplier=Electro+Sonic; ComponentLink4URL: https://datasheet.octopart.com:443/ABLS-13.560MHZ-B4Y-T-Abracon-datasheet-37142362.pdf?src-supplier=Abracon+SCT; ComponentLink4Description: https://datasheet.octopart.com:443/ABLS-13.560MHZ-B4Y-T-Abracon-datasheet-37142362.pdf?src-supplier=Abracon+SCT; ComponentLink5URL: https://sigma.octopart.com:443/141159843/technical_drawing/Abracon-ABLS-13.560MHZ-B4Y-T.pdf?src-supplier=Abracon+SCT; ComponentLink5Description: https://sigma.octopart.com:443/141159843/technical_drawing/Abracon-ABLS-13.560MHZ-B4Y-T.pdf?src-supplier=Abracon+SCT; ComponentLink6URL: https://datasheet.octopart.com:443/ABLS-13.560MHZ-B4Y-T-Abracon-datasheet-10208858.pdf?src-supplier=Future+Electronics; ComponentLink6Description: https://datasheet.octopart.com:443/ABLS-13.560MHZ-B4Y-T-Abracon-datasheet-10208858.pdf?src-supplier=Future+Electronics; ComponentLink7URL: https://datasheet.octopart.com:443/ABLS-13.560MHZ-B4Y-T-Abracon-datasheet-8821566.pdf?src-supplier=Future+Electronics; ComponentLink7Description: https://datasheet.octopart.com:443/ABLS-13.560MHZ-B4Y-T-Abracon-datasheet-8821566.pdf?src-supplier=Future+Electronics; ComponentLink8URL: https://datasheet.octopart.com:443/ABLS-13.560MHZ-B4Y-T-Abracon-datasheet-8445777.pdf?src-supplier=Future+Electronics; ComponentLink8Description: https://datasheet.octopart.com:443/ABLS-13.560MHZ-B4Y-T-Abracon-datasheet-8445777.pdf?src-supplier=Future+Electronics; ComponentLink9URL: https://datasheet.octopart.com:443/ABLS-13.560MHZ-B4Y-T-Abracon-datasheet-8324655.pdf?src-supplier=Future+Electronics; ComponentLink9Description: https://datasheet.octopart.com:443/ABLS-13.560MHZ-B4Y-T-Abracon-datasheet-8324655.pdf?src-supplier=Future+Electronics; ComponentLink10URL: https://datasheet.octopart.com:443/ABLS-13.560MHZ-B4Y-T-Abracon-datasheet-5314488.pdf?src-supplier=Future+Electronics; ComponentLink10Description: https://datasheet.octopart.com:443/ABLS-13.560MHZ-B4Y-T-Abracon-datasheet-5314488.pdf?src-supplier=Future+Electronics; ComponentLink11URL: http://sigma.octopart.com:80/conflict_mineral_statement/Abracon-company-27.pdf?src-supplier=Compliance+Statements; ComponentLink11Description: http://sigma.octopart.com:80/conflict_mineral_statement/Abracon-company-27.pdf?src-supplier=Compliance+Statements; LCSC PN: C17590848
footprint XTAL_ABLS-13.560MHZ-B4Y-T
pins: 1, 2

## ABS07-32.768KHZ-T
designator Y?
32.768 kHz ±20ppm Crystal 12.5pF 70 kOhms 2-SMD, No Lead; Manufacturer: Abracon; ESR (Equivalent Series Resistance): 70kΩ; Frequency Stability: 144ppm; Frequency Tolerance: 0.002%; Supplier: DigiKey; Manufacturer Part Number: ABS07-32.768KHZ-T; RoHS: Compliant; Category: Crystals; Stock: 949488; Pricing: 1=0.61, 10=0.528, 25=0.4996, 50=0.4788, 100=0.4591, 250=0.43416, 500=0.41618, 1000=0.39896 (USD); Value: 12.5pF; Case/Package: CSMD; China RoHS: Compliant; Depth: 1.5mm; Frequency: 32.768kHz; Height: 900µm; Lead Free: Lead Free; Length: 3.2mm; Lifecycle Status: Production; Load Capacitance: 12.5pF; Max Operating Temperature: 85°C; Min Operating Temperature: -40°C; Mounting Technology: Surface Mount; Pins: 2; Packaging: Tape and Reel; Radiation Hardening: No; REACH SVHC: Yes; Schedule B: 8541600025, 8541600025|8541600025, 8541600025|8541600025|8541600025, 8541600025|8541600025|8541600025|8541600025; ESR: 70kΩ; Termination: SMD/SMT; Tolerance: 0.002%; Width: 1.5494mm; ComponentLink1URL: https://datasheet.octopart.com:443/ABS07-32.768KHZ-T-Abracon-datasheet-166693031.pdf?src-supplier=Master+Electronics; ComponentLink1Description: https://datasheet.octopart.com:443/ABS07-32.768KHZ-T-Abracon-datasheet-166693031.pdf?src-supplier=Master+Electronics; ComponentLink2URL: https://datasheet.octopart.com:443/ABS07-32.768KHZ-T-Abracon-datasheet-103422647.pdf?src-supplier=JRH+Electronics; ComponentLink2Description: https://datasheet.octopart.com:443/ABS07-32.768KHZ-T-Abracon-datasheet-103422647.pdf?src-supplier=JRH+Electronics; ComponentLink3URL: https://datasheet.octopart.com:443/ABS07-32.768KHZ-T-Abracon-datasheet-12512028.pdf?src-supplier=Upverter; ComponentLink3Description: https://datasheet.octopart.com:443/ABS07-32.768KHZ-T-Abracon-datasheet-12512028.pdf?src-supplier=Upverter; ComponentLink4URL: https://datasheet.octopart.com:443/ABS07-32.768KHZ-T-Abracon-datasheet-10031075.pdf?src-supplier=Upverter; ComponentLink4Description: https://datasheet.octopart.com:443/ABS07-32.768KHZ-T-Abracon-datasheet-10031075.pdf?src-supplier=Upverter; ComponentLink5URL: https://datasheet.octopart.com:443/ABS07-32.768KHZ-T-Abracon-datasheet-8326266.pdf?src-supplier=Upverter; ComponentLink5Description: https://datasheet.octopart.com:443/ABS07-32.768KHZ-T-Abracon-datasheet-8326266.pdf?src-supplier=Upverter; ComponentLink6URL: https://datasheet.octopart.com:443/ABS07-32.768KHZ-T-Abracon-datasheet-121082.pdf?src-supplier=Upverter; ComponentLink6Description: https://datasheet.octopart.com:443/ABS07-32.768KHZ-T-Abracon-datasheet-121082.pdf?src-supplier=Upverter; ComponentLink7URL: https://datasheet.octopart.com:443/ABS07-32.768KHZ-T-Abracon-datasheet-41191559.pdf?src-supplier=element14+APAC; ComponentLink7Description: https://datasheet.octopart.com:443/ABS07-32.768KHZ-T-Abracon-datasheet-41191559.pdf?src-supplier=element14+APAC; ComponentLink8URL: https://datasheet.octopart.com:443/ABS07-32.768KHZ-T-Abracon-datasheet-15206620.pdf?src-supplier=Newark; ComponentLink8Description: https://datasheet.octopart.com:443/ABS07-32.768KHZ-T-Abracon-datasheet-15206620.pdf?src-supplier=Newark; ComponentLink9URL: https://datasheet.octopart.com:443/ABS07-32.768KHZ-T-Abracon-datasheet-37124839.pdf?src-supplier=Farnell; ComponentLink9Description: https://datasheet.octopart.com:443/ABS07-32.768KHZ-T-Abracon-datasheet-37124839.pdf?src-supplier=Farnell; ComponentLink10URL: https://datasheet.octopart.com:443/ABS07-32.768KHZ-T-Abracon-datasheet-128558976.pdf?src-supplier=X-ON; ComponentLink10Description: https://datasheet.octopart.com:443/ABS07-32.768KHZ-T-Abracon-datasheet-128558976.pdf?src-supplier=X-ON; ComponentLink11URL: https://datasheet.octopart.com:443/ABS07-32.768KHZ-T-Abracon-datasheet-49826663.pdf?src-supplier=TME; ComponentLink11Description: https://datasheet.octopart.com:443/ABS07-32.768KHZ-T-Abracon-datasheet-49826663.pdf?src-supplier=TME; ComponentLink12URL: https://datasheet.octopart.com:443/ABS07-32.768KHZ-T-Abracon-datasheet-15994676.pdf?src-supplier=TME; ComponentLink12Description: https://datasheet.octopart.com:443/ABS07-32.768KHZ-T-Abracon-datasheet-15994676.pdf?src-supplier=TME; ComponentLink13URL: http://sigma.octopart.com:80/conflict_mineral_statement/Abracon-company-27.pdf?src-supplier=Compliance+Statements; ComponentLink13Description: http://sigma.octopart.com:80/conflict_mineral_statement/Abracon-company-27.pdf?src-supplier=Compliance+Statements; LCSC PN: C130253
footprint CRYSTAL_32.768kHZ_FPABS07-MFG
pins: 1, 2